# EAGLE library part 74*2G14? (library 74xx)
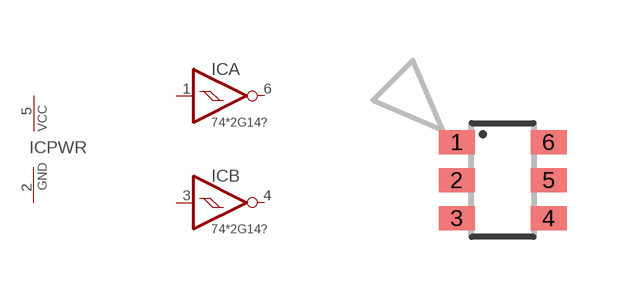
[diagram p1: symbol with the pads of SOT23-6; footprint SOT23-6]

Designator prefix IC; gates A=74X14 B=74X14 PWR=PWRN

## 74LVC2G14DBV (MARK: C14x; MF: Texas Instruments; MPN: SN74LVC2G14DBVx)  [SOT23-6]
1  A:I  in
2  PWR:GND  pwr
3  B:I  in
4  B:O  out
5  PWR:VCC  pwr
6  A:O  out

## Footprint SOT23-6 (pad centres in mm)
Small Outline Transistor 6 lead
smd 0.9 x 0.6: 1 -1.15,0.95; 2 -1.15,0; 3 -1.15,-0.95; 4 1.15,-0.95; 5 1.15,0; 6 1.15,0.95